# Altium footprint library 2221_LIB_PCB.PcbLib: 1 footprints
Each footprint in its own frame and in the unit in brackets; x right, y up, seen from the top. Pads: shape width x height; smd on the part's side, far side on the other; paste and mask are expansions set on the pad; w line width, h text height; cw(c..) or ccw(c..) is an arc to the next point about the centre after c.
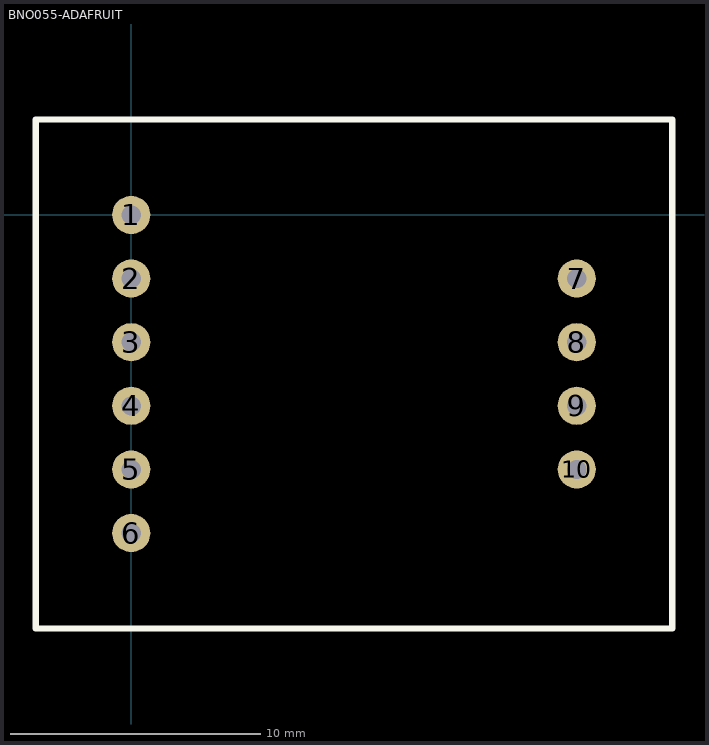
[diagram p0: the footprint, top view; thin cyan lines are the x and y axes]

## BNO055-ADAFRUIT [mil]
pads (10):
  round 60 hole 30: 1(0,0) 2(0,-100) 3(0,-200) 4(0,-300) 5(0,-400) 6(0,-500) 7(700,-100) 8(700,-200) 9(700,-300) 10(700,-400)
Top Overlay:
  lines w10: -150,-650 850,-650 850,150 -150,150 -150,-650